# EAGLE library part MCP2210 (library Semiconductors > Integrated Circuits - ICs > Interface ICs > USB Interface IC)
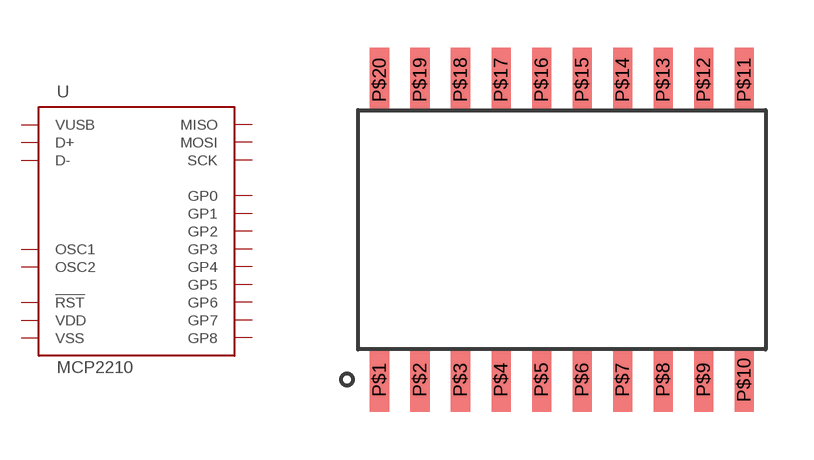
[diagram p0: symbol with the pads of SOIC-20_300MIL; footprint SOIC-20_300MIL]

Designator prefix U

## MCP2210  [SOIC-20_300MIL]
P$1  VDD
P$2  OSC1
P$3  OSC2
P$4  !RST!
P$5  GP0
P$6  GP1
P$7  GP2
P$8  GP3
P$9  MOSI
P$10  GP4
P$11  SCK
P$12  GP5
P$13  MISO
P$14  GP6
P$15  GP7
P$16  GP8
P$17  VUSB
P$18  D-
P$19  D+
P$20  VSS

## Footprint SOIC-20_300MIL (pad centres in mm)
smd 0.6 x 2: P$1 -5.08,-4.7; P$2 -3.81,-4.7; P$3 -2.54,-4.7; P$4 -1.27,-4.7; P$5 0,-4.7; P$6 1.27,-4.7; P$7 2.54,-4.7; P$8 3.81,-4.7; P$9 5.08,-4.7; P$10 6.35,-4.7; P$11 6.35,4.7; P$12 5.08,4.7; P$13 3.81,4.7; P$14 2.54,4.7; P$15 1.27,4.7; P$16 0,4.7; P$17 -1.27,4.7; P$18 -2.54,4.7; P$19 -3.81,4.7; P$20 -5.08,4.7